# EAGLE library part OPA2380 (library ic)
Transimpedance Amp http://www.ti.com/product/OPA2380
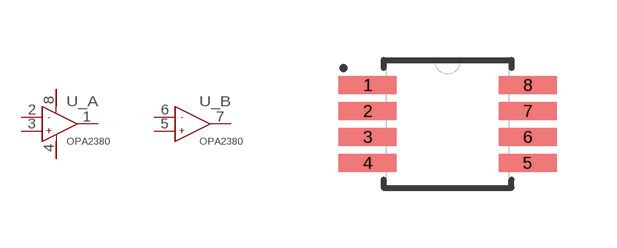
[diagram p1: symbol with the pads of MSOP8; footprint MSOP8]

Designator prefix U; gates G$1=OPAMP_PWR _A=OPAMP _B=OPAMP

## OPA2380 (EAGLEUP: MSOP8;;; GBW: 90MHz; MFR: TI; MPN: OPA2380AIDGKT; VDD: 2.7-5.5)  [MSOP8]
1  _A:OUT  out
2  _A:-IN  in
3  _A:+IN  in
4  G$1:V-  pwr
5  _B:+IN  in
6  _B:-IN  in
7  _B:OUT  out
8  G$1:V+  pwr

## Footprint MSOP8 (pad centres in mm)
smd 1.45 x 0.45: 1 -2,0.975; 2 -2,0.325; 3 -2,-0.325; 4 -2,-0.975; 5 2,-0.975; 6 2,-0.325; 7 2,0.325; 8 2,0.975